# Altium schematic symbol library aiskylab-04Dio-1K.SchLib: 14 symbols
Pins are listed as number, name and electrical type; pins without a type are passive.

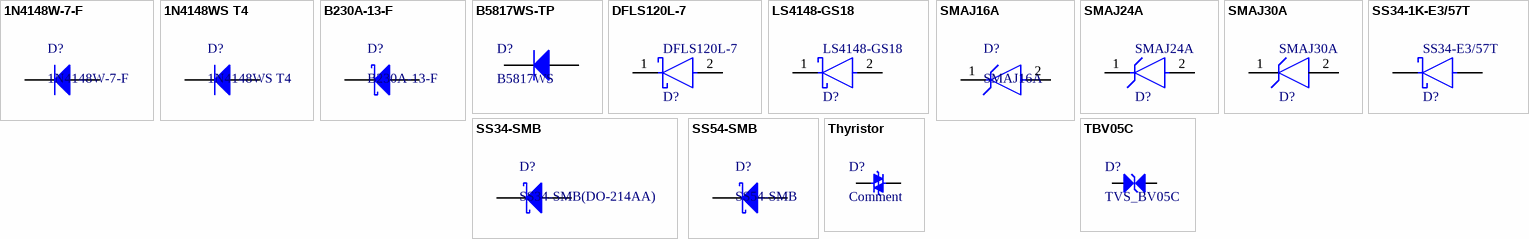
[diagram p0: symbols 1N4148W-7-F to Thyristor]

## 1N4148W-7-F
designator D?
Fast Switching Diode, 100 V, 0.15 A, -65 to 150 degC, 2-Pin?SOD123, RoHS, Tape and Reel; Recovery Time: 4ns; Brand: DiodesIncorporated; Unit Weight: 0.000353oz; Max Surge Current: 2A; Peak Reverse Voltage: 100V; Ir - Reverse Current: 1uA; Vf - Forward Voltage: 1.25V; Configuration: Single; If - Forward Current: 0.15A; Product Category: Diodes-GeneralPurpose,Power,Switching; Operating Temperature Range: -65Cto+150C; Packaging: Reel; Manufacturer URL: http://www.diodes.com/; Maximum Operating Temperature: +150C; Height: 1.25mm; Minimum Operating Temperature: -65C; Product: SwitchingDiodes; Package URL: http://www.diodes.com/datasheets/ds18004.pdf; Type: SwitchingDiode; Package Reference: SOD123-2; Width: 1.7mm; Datasheet URL: http://www.farnell.com/datasheets/1915529.pdf; Datasheet Version: Rev. 24-2, 10/2013; Series: 1N4148; Factory Pack Quantity: 3000; Length: 2.85mm; RoHS: True; Manufacturer: DiodesIncorporated; Mounting Style: SMD/SMT; Package / Case: SOD-123
footprint SOD-123-1A (2.7x1.6X1.1mm（长宽高，不包括引脚）)
pins: 1 K, 2 A

## 1N4148WS T4
designator D?
SuplierNumber: C2128; Package: SOD-323; Supplier: LC
footprint SOD-323
pins: 1 K, 2 A

## B230A-13-F
designator D?
B230A-13-F,SCHOTTKY RECTIFIER; Manufacturer: Diodes; Element Configuration: Single; Max Repetitive Reverse Voltage (Vrrm): 30V; Forward Current: 2A; Peak Non-Repetitive Surge Current: 50A; Peak Reverse Current: 500uA; Forward Voltage: 500mV; Polarity: Standard; Capacitance: 200pF; Supplier 1: Digi-Key; Manufacturer Part Number: B230A-13-F; RoHS: Yes; Category: Rectifier Diodes; Stock 1: 36331; Pricing 1: 1=0.45000, 10=0.33900, 25=0.30560, 100=0.16110, 250=0.15944, 500=0.14276, 1000=0.11110, 2500=0.10166 (USD); Mount: Surface Mount; Case/Package: SMA; Number of Pins: 2; Weight: 0.002258oz; Contact Plating: Tin,Matte; Min Operating Temperature: -65°C; Max Operating Temperature: 150°C; Packaging: Tape and Reel; Current Rating: 2A; Max Forward Surge Current (Ifsm): 50A; Max Reverse Voltage (DC): 30V; Average Rectified Current: 2A; Output Current: 2A; Package Quantity: 5000; Termination: SMD/SMT; Voltage Rating (DC): 30V; Length: 4.6mm; Height: 2.1mm; Width: 2.92mm; Radiation Hardening: No; Lead Free: Lead Free; REACH SVHC: No SVHC; ComponentLink1URL: https://datasheet.ciiva.com/27052/1538769-27052351.pdf?src-supplier=Jameco; ComponentLink1Description: https://datasheet.ciiva.com/27052/1538769-27052351.pdf?src-supplier=Jameco; ComponentLink2URL: https://datasheet.ciiva.com/16289/ds13004-16289654.pdf?src-supplier=Future+Electronics; ComponentLink2Description: https://datasheet.ciiva.com/16289/ds13004-16289654.pdf?src-supplier=Future+Electronics; ComponentLink3URL: https://datasheet.ciiva.com/8301/ds13004-8301593.pdf?src-supplier=Avnet; ComponentLink3Description: https://datasheet.ciiva.com/8301/ds13004-8301593.pdf?src-supplier=Avnet; ComponentLink4URL: https://datasheet.ciiva.com/4715/ds13004-70120-4715546.pdf?src-supplier=Mouser; ComponentLink4Description: https://datasheet.ciiva.com/4715/ds13004-70120-4715546.pdf?src-supplier=Mouser; ComponentLink5URL: https://datasheet.ciiva.com/22695/1911814-22695786.pdf?src-supplier=Element14; ComponentLink5Description: https://datasheet.ciiva.com/22695/1911814-22695786.pdf?src-supplier=Element14; Supplier Part Number 1: B230A-FDICT-ND
footprint DIOD-SMA-1K (SMA, 2-Leads, Body 4.3x2.605mm, Height 2.3mm)
pins: 1 K, 2 A

## B5817WS-TP
designator D?, comment B5817WS
肖特基二极管; Manufacturer: MCC; Manufacturer Part Number: B5817WS-TP; Description: Diode Schottky 20V 1A 2-Pin SOD-323 T/R; Forward Voltage: 450mV; Max Reverse Current: 1mA; Average Rectified Current: 1A; Max Repetitive Reverse Voltage (Vrrm): 20V; Max Forward Surge Current (Ifsm): 10A; Element Configuration: Single; Supplier 1: Digi-Key; RoHS: Yes; Category: Rectifier Diodes; Stock 1: 47317; Pricing 1: 1=0.43000, 10=0.30300, 100=0.15310, 500=0.12486, 1000=0.09264 (USD); Mount: Surface Mount; Number of Pins: 2; Max Operating Temperature: 125°C; Packaging: Tape and Reel; Package Quantity: 1; Forward Current: 1A; Max Reverse Voltage (DC): 20V; REACH SVHC: Unknown; Lead Free: Lead Free; RoHS Compliant: Yes; ComponentLink1URL: https://datasheet.ciiva.com/912/b5817ws-b5819wssod-323-912713.pdf?src-supplier=Digi-Key; ComponentLink1Description: https://datasheet.ciiva.com/912/b5817ws-b5819wssod-323-912713.pdf?src-supplier=Digi-Key; ComponentLink2URL: https://datasheet.ciiva.com/7624/b5817ws-b5819wssod-323-7624698.pdf?src-supplier=Element14; ComponentLink2Description: https://datasheet.ciiva.com/7624/b5817ws-b5819wssod-323-7624698.pdf?src-supplier=Element14; ComponentLink3URL: https://datasheet.ciiva.com/912/b5817ws-b5819wssod-323-912711.pdf?src-supplier=Digi-Key; ComponentLink3Description: https://datasheet.ciiva.com/912/b5817ws-b5819wssod-323-912711.pdf?src-supplier=Digi-Key; ComponentLink4URL: https://datasheet.ciiva.com/912/b5817ws-b5819wssod-323-912712.pdf?src-supplier=Digi-Key; ComponentLink4Description: https://datasheet.ciiva.com/912/b5817ws-b5819wssod-323-912712.pdf?src-supplier=Digi-Key; ComponentLink5URL: https://datasheet.ciiva.com/17182/b5817ws-b5819wssod-323-17182367.pdf?src-supplier=Future+Electronics; ComponentLink5Description: https://datasheet.ciiva.com/17182/b5817ws-b5819wssod-323-17182367.pdf?src-supplier=Future+Electronics; Supplier Part Number 1: B5817WS-TPMSCT-ND
footprint SOD-323
pins: 1 K, 2 A

## DFLS120L-7
designator D?
DIODE SCHOTTKY 20V 1A POWERDI123; Manufacturer: Diodes Inc.; Value: 75pF; Automotive Grade: Grade 1; Max Junction Temp: +125°C; Peak Reverse Current: 1mA; Max Surge Forward Current: 50A; Height: 1mm; Footprint Url: https://www.diodes.com/assets/Package-Files/PowerDI123.pdf; Device Class L3: Schottky Diodes; Mouser Description: Schottky Diodes & Rectifiers 1A 20V; Lead Free: Yes; Reverse Voltage: 20V; Forward Current: 1A; ComponentLink2Description: Datasheet; Automotive: Yes; Max Repetitive Reverse Voltage: 20V; Package: PowerDI123; RoHS: TRUE; Octopart: https://octopart.com/dfls120l-7-diodes+inc.-328569; ComponentLink2URL: https://www.diodes.com/assets/Datasheets/ds30444.pdf; Temperature: -55°C to +125°C; Temperature Range Low: -55°C; Device Class L1: Discrete Semiconductors; Category: Diode; Device Class L2: Diodes; Digikey Description: DIODE SCHOTTKY 20V 1A POWERDI123; Capacitance: 75pF; Temperature Range High: +125°C; Manufacturer Part Number: DFLS120L-7
footprint FP-PowerDI123-MFG
pins: 1 C, 2 A

## LS4148-GS18
designator D?
DIODE GEN PURP 75V 150MA SOD80; Manufacturer: Vishay; Capacitance: 4pF; Max Surge Forward Current: 2A; Forward Current: 300mA; Max Repetitive Reverse Voltage: 100V; Max Junction Temp: +175°C; Peak Reverse Current: 5uA; Value: 4pF; Automotive Grade: Grade 0; Device Class L2: Diodes; Digikey Description: DIODE GEN PURP 75V 150MA SOD80; Lead Free: Yes; Device Class L1: Discrete Semiconductors; Mouser Description: In a Pack of 100, Vishay Switching Diode, 300mA 75V, 2-Pin SOD-80 LS4148-GS18; Package: 6.560-5006.01-4; RoHS: TRUE; Temperature Range High: +175°C; ComponentLink2URL: http://www.vishay.com/docs/85561/ls4148.pdf; Temperature: to +175°C; Manufacturer Part Number: LS4148-GS18; Device Class L3: Schottky Diodes; Automotive: Yes; ComponentLink2Description: Datasheet; Reverse Voltage: 75V; Height: 1.7mm; Category: Diode; Octopart: https://octopart.com/ls4148-gs18-vishay-55507867
footprint FP-6_560-5006_01-4-MFG
pins: 1 C, 2 A

## SMAJ16A
designator D?
Transient Voltage Suppressor, 6.40 to 231 V, 16 V Stand-off Voltage, Uni-Directional, -55 to 155 degC, 2-pin DO-214AC, Pb-Free, Tape and Reel; PartNumber: SMAJ16A-E3/61; Manufacturer: Vishay Semiconductor; VBR Uni-Directional (V): 6.4 to 231; VWM (V): 16; ID (uA): 1; IFSM: 40 A; PPPM (W): 400, 300; Packing: Tape and Reel; Operating Junction and Storage Temperature Range: -55 to 150 degC; Mounting Technology: Surface Mount; DatasheetVersion: 12/8/2013; PackageReference: DO-214AC-2; PackageDescription: 2-Pin DO-214AC (SMA), Body 4.245 x 2.665 mm; ComponentLink1Description: Manufacturer URL; RoHS: TRUE; ComponentLink3URL: http://www.vishay.com/docs/88390/smaj50a.pdf; ComponentLink1URL: http://www.vishay.com/; ComponentLink3Description: Package Specification; ComponentLink2Description: Datasheet; ComponentLink2URL: http://www.vishay.com/docs/88390/smaj50a.pdf
footprint DO-214AC
pins: 1 C, 2 A

## SMAJ24A
designator D?
TVS DIODE 24V 38.9V DO214AC; Manufacturer: Littelfuse Inc; Direction: Unidirectional; Peak Pulse Power: 400W; Peak Pulse Current: 10.3A; Max Junction Temp: +150°C; Breakdown Voltage: 26.7V; Number Of Channels: 1; ComponentLink2Description: Datasheet; Device Class L3: unset; Height: 2.29mm; ComponentLink2URL: https://www.littelfuse.com/~/media/electronics/datasheets/tvs_diodes/littelfuse_tvs_diode_smaj_datasheet.pdf.pdf; Device Class L1: Circuit Protection; Package: SMAJ; Temperature Range High: +150°C; Device Class L2: TVS Diodes; Clamping Voltage: 38.9V; Reverse Standoff Voltage: 24V; Manufacturer Part Number: SMAJ24A; Mouser Description: In a Pack of 25, Littelfuse SMAJ24A, Uni-Directional TVS Diode, 400W, 2-Pin DO-214AC; Digikey Description: TVS DIODE 24V 38.9V DO214AC; Lead Free: Yes; Octopart: https://octopart.com/smaj24a-littelfuse-350003; Automotive: No; Temperature Range Low: -65°C; Category: Diode; RoHS: TRUE; Temperature: -65°C to +150°C
footprint FP-SMAJ-MFG
pins: 1 C, 2 A

## SMAJ30A
designator D?
TVS DIODE 30V 48.4V SMA; Manufacturer: Bourns Inc.; Max Junction Temp: +150°C; Peak Pulse Power: 400W; Breakdown Voltage: 33.3V; Number Of Channels: 1; Peak Pulse Current: 8.3A; Direction: Unidirectional; Temperature: -55°C to +150°C; Octopart: https://octopart.com/smaj30a-bourns-12809375; Automotive: No; Clamping Voltage: 48.4V; ComponentLink2Description: Datasheet; Mouser Description: TVS Diodes / ESD Suppressors 30volts 5uA 8.3 Amps Uni-Dir; Lead Free: Yes; Category: Diode; Manufacturer Part Number: SMAJ30A; Reverse Standoff Voltage: 30V; Digikey Description: TVS DIODE 30V 48.4V SMA; RoHS: TRUE; Device Class L2: TVS Diodes; Device Class L1: Circuit Protection; Device Class L3: unset; ComponentLink2URL: https://www.bourns.com/docs/Product-Datasheets/SMAJ.pdf; Height: 2.29mm; Temperature Range Low: -55°C; Package: SMA; Temperature Range High: +150°C
footprint FP-SMA-MFG
pins: 1 C, 2 A

## SS34-1K-E3/57T
designator D?, comment SS34-E3/57T
DIODE SCHOTTKY 40V 3A DO214AB; Manufacturer: Vishay; Max Junction Temp: +150°C; Peak Reverse Current: 0.5mA; Max Surge Forward Current: 100A; Standoff Height: 0mm; ComponentLink2Description: Datasheet; Device Class L3: Schottky Diodes; Height: 2.62mm; Max Repetitive Reverse Voltage: 40V; Lead Free: Yes; Package: 95402; Temperature Range High: +150°C; ComponentLink2URL: http://www.vishay.com/docs/88751/ss32.pdf; Temperature: -55°C to +150°C; Footprint Url: http://www.vishay.com/docs/95402/smc.pdf; Automotive: No; Forward Current: 3A; Category: Diode; Manufacturer Part Number: SS34-E3/57T; RoHS: TRUE; Device Class L2: Diodes; Mouser Description: Schottky Diodes & Rectifiers 3.0 Amp 40 Volt; Octopart: https://octopart.com/ss34-e3%2F57t-vishay-39552907; Temperature Range Low: -55°C; Device Class L1: Discrete Semiconductors; Digikey Description: DIODE SCHOTTKY 40V 3A DO214AB
footprint DO214AB-1K
pins: 1 C, 2 A

## SS34-SMB
designator D?, comment SS34-SMB(DO-214AA)
3A 肖特基二极管
footprint DO-214AA
pins: 1 K, 2 A

## SS54-SMB
designator D?
5A 肖特基二极管
footprint DO-214AA
pins: 1 K, 2 A

## TBV05C
designator D?, comment TVS_BV05C
TVS,ESD二极管
footprint SOD-323
pins: 1, 2

## Thyristor
designator D?, comment Comment
pins: 1, 2